# Altium schematic symbol library 0ADKP2000-RE.SchLib: 1 symbol
Pins are listed as number, name and electrical type; pins without a type are passive.

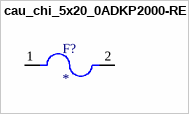
[diagram p0: symbol cau_chi_5x20_0ADKP2000-RE]

## cau_chi_5x20_0ADKP2000-RE
designator F?
Ceramic tube fuse | Axial Pigtail 5x20mm | UL | Slow Blow | 500mA | 600V; MP: 0ADKP2000-RE; Package: None; Price: None; Value: *; Availability: Unavailable
footprint FUSAD2722W65L2250D600
pins: 1, 2